# EAGLE library part BAW56DW (library diodes)
DIODE ARRAY GP 75V 150MA
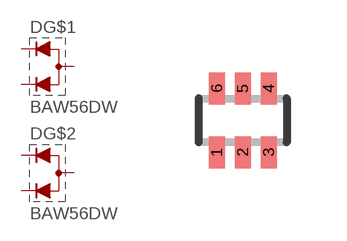
[diagram p2: symbol with the pads of SOT363; footprint SOT363]

Designator prefix D; gates G$1=D2C1A G$2=D2C1A

## BAW56DW (DIGIKEY: BAW56DW-FDICT-ND)  [SOT363]
1  G$1:C1  pas
2  G$1:C2  pas
3  G$2:A  pas
4  G$2:C1  pas
5  G$2:C2  pas
6  G$1:A  pas

## Footprint SOT363 (pad centres in mm)
Small Outline Transistor; 6 leads
smd 0.4 x 0.8: 1 -0.65,-0.8; 2 0,-0.8; 3 0.65,-0.8; 4 0.65,0.8; 5 0,0.8; 6 -0.65,0.8